# Altium schematic symbol library LMC555.SchLib: 1 symbol
Pins are listed as number, name and electrical type; pins without a type are passive.

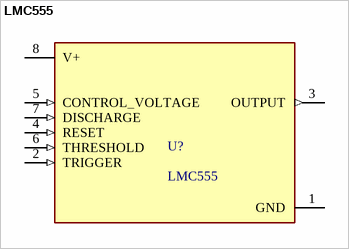
[diagram p0: symbol LMC555]

## LMC555
designator U?
footprint LMC555
pins: 1 GND (power), 2 TRIGGER (in), 3 OUTPUT (out), 4 RESET (in), 5 CONTROL_VOLTAGE (in), 6 THRESHOLD (in), 7 DISCHARGE (in), 8 V+ (power)